# Altium schematic symbol library ic-power-module.SchLib: 10 symbols
Pins are listed as number, name and electrical type; pins without a type are passive.

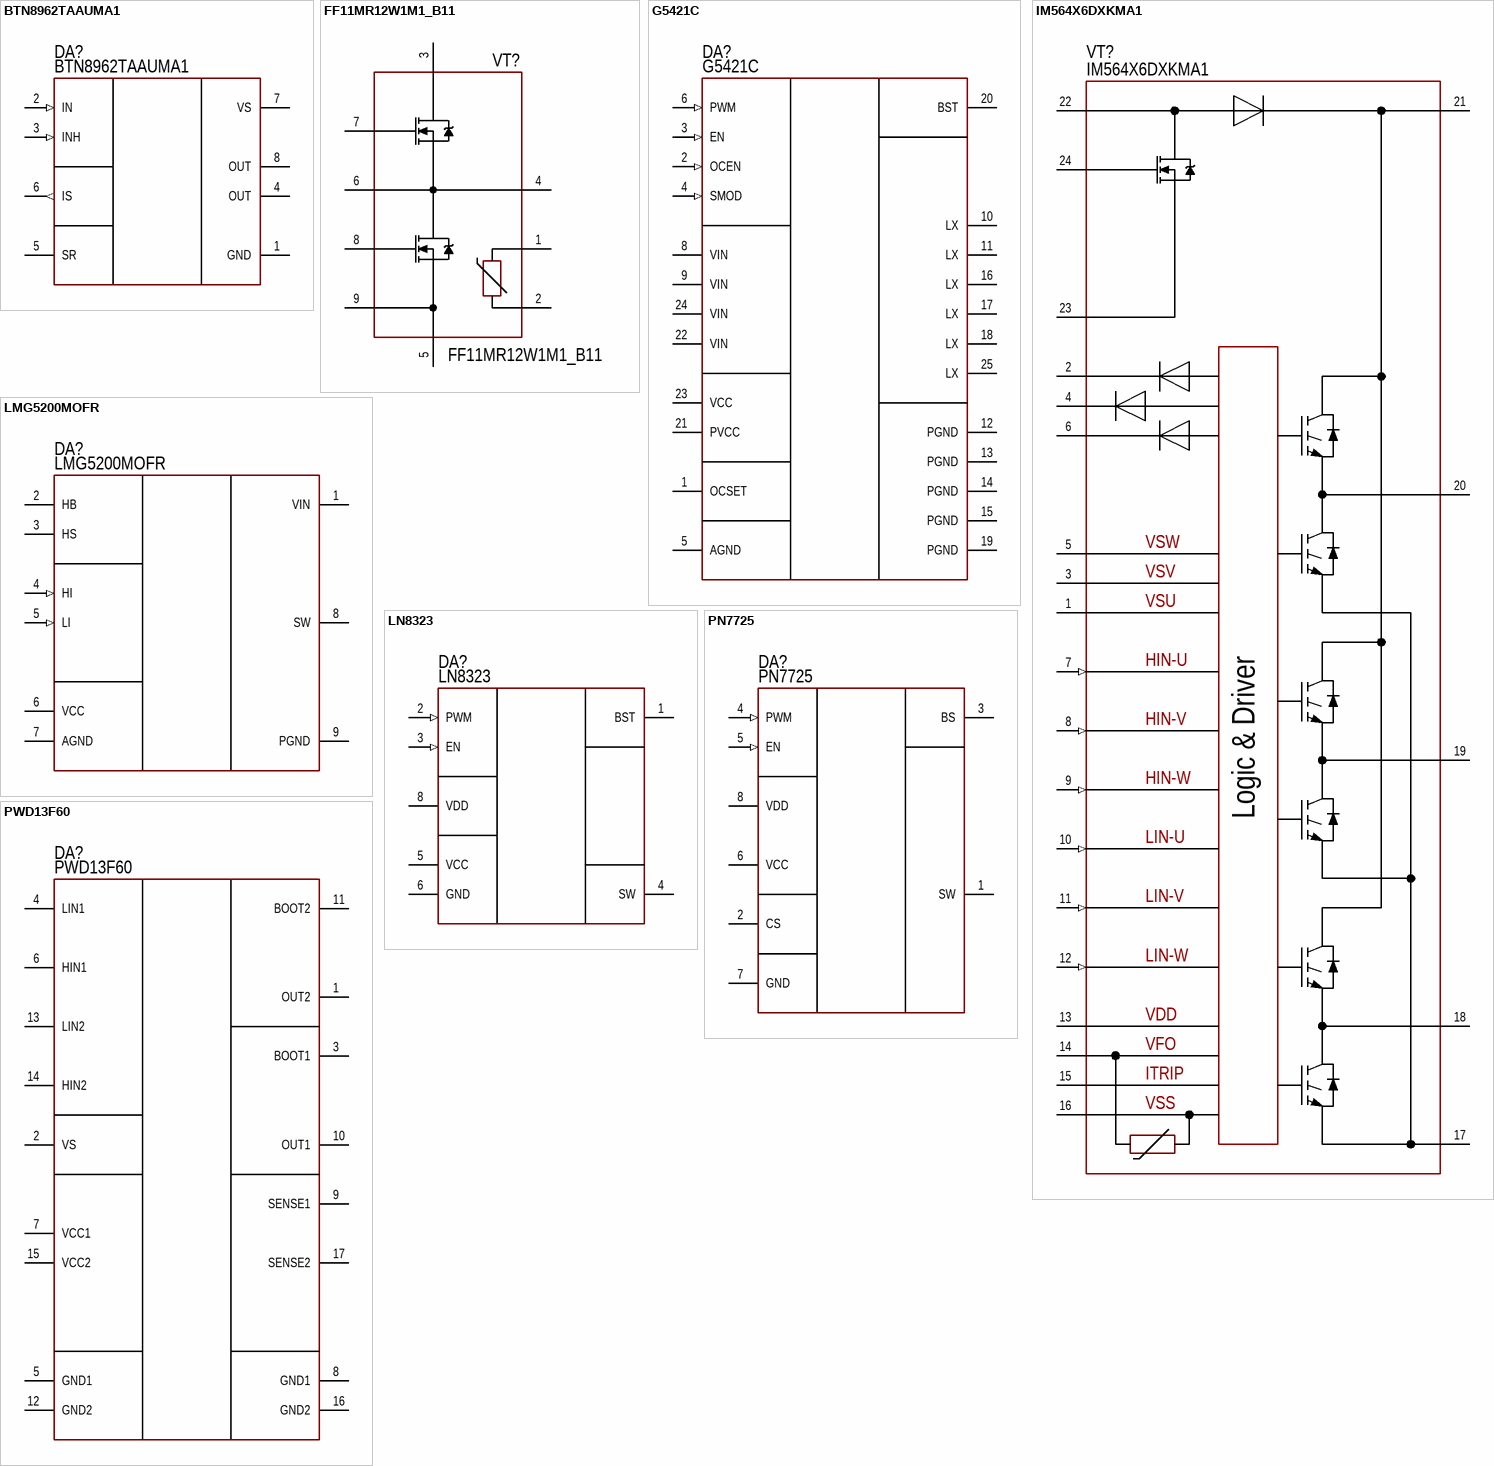
[diagram p0: symbols BTN8962TAAUMA1 to PWD13F60]

## BTN8962TAAUMA1
designator DA?  PartNumber: BTN8962TAAUMA1
Brushed half-bridge; Manufacturer: Infineon; ValueManufacturerPartNumber: Brushed half-bridge, 40V, 7.5/6.7mOhm, 40A, supply 8...18V, -40...+150°C, TO-263-7; VoltageSupply: supply 8...18V; Frequency: 7.5/6.7mOhm; CurrentOutput: 40A; VoltageWork: 40V; HelpURL: https://ru.mouser.com/ProductDetail/Infineon-Technologies/BTN8962TAAUMA1?qs=WkdRfq4wf1PW7zeUayII0w%3D%3D; Package: TO-263-7; ComponentType: Brushed half-bridge; Temperature: -40...+150°C
footprint TO-263-7 (TO263-7 (D2Pak, 7-Pads))
pins: 1 GND, 2 IN (in), 3 INH (in), 4 OUT, 5 SR, 6 IS (out), 7 VS, 8 OUT

## FF11MR12W1M1_B11
designator VT?  PartNumber: FF11MR12W1M1_B11
SiC half-bridge; Manufacturer: Infineon Technologies; ValueManufacturerPartNumber: Dual SiC module, 1200V, 100A, 238nC, 682W, 11 mOhms, Easy B1, -55...+125°C; TypeTransistor: Dual SiC module; VoltageDS: 1200V; CurrentDS: 100A; RDS: 11 mOhms; GateCharge: 238nC; MaxPower: 682W; Package: Easy B1; HelpURL: https://ru.mouser.com/ProductDetail/Infineon-Technologies/FF11MR12W1M1B11BOMA1?qs=sGAEpiMZZMve4%2FbfQkoj%252BMs%252BHhAJ5BiNWWSXLBNhDy8%3D; Temperature: -55...+125°C
footprint MOD: FF11MR12W1M1_B11
pins: 1 G, 1 G, 1, 2 D, 2 D, 2, 3 S, 3 S, 3, 4, 5, 6, 7, 8, 9

## G5421C
designator DA?  PartNumber: G5421C
Mosfet module; Manufacturer: GMT; ValueManufacturerPartNumber: Half-bridge module, 30V, 1MHz, 6A, supply 4.5...5.5V, -40...+125°C, QFN-4x4; VoltageSupply: supply 4.5...5.5V; Frequency: 1MHz; CurrentOutput: 6A; VoltageWork: 30V; HelpURL: https://lcsc.com/product-detail/PMIC-Current-Power-Monitors-Regulators_GMT-Global-Mixed-mode-Tech-G5421CQT1U_C528085.html; Package: QFN-4x4; ComponentType: Half-bridge module; Temperature: -40...+125°C
footprint IC: G5421C
pins: 1 OCSET, 2 OCEN (in), 3 EN (in), 4 SMOD (in), 5 AGND, 6 PWM (in), 8 VIN, 9 VIN, 10 LX, 11 LX, 12 PGND, 13 PGND, 14 PGND, 15 PGND, 16 LX, 17 LX, 18 LX, 19 PGND, 20 BST, 21 PVCC, 22 VIN, 23 VCC, 24 VIN, 25 LX

## IM564X6DXKMA1
designator VT?  PartNumber: IM564X6DXKMA1
PFC+IGBT; Manufacturer: Infineon; ValueManufacturerPartNumber: PFC+IGBT, 600V, 20A, 10...40 kHz, 2400W, 11 mOhms, CIPOS Mini, -55...+125°C; VoltageDS: 600V; CurrentDS: 20A; RDS: 11 mOhms; GateCharge: 10...40 kHz; MaxPower: 2400W; Package: CIPOS Mini; HelpURL: https://ru.mouser.com/ProductDetail/Infineon-Technologies/IM564X6DXKMA1/?qs=vHuUswq2%252BsyssQKyweZuZA%3D%3D; Temperature: -55...+125°C; TypeTransistor: PFC+IGBT
footprint MOD: CIPOS
pins: 1, 2, 3, 4, 5, 6, 7 (in), 8 (in), 9 (in), 10 (in), 11 (in), 12 (in), 13, 14, 15, 16, 17, 18, 19, 20, 21, 22, 23, 24
text: VSW; VSV; VSU; HIN-U; HIN-V; HIN-W; Logic & Driver; LIN-U; LIN-V; LIN-W; VDD; VFO; ITRIP; VSS

## LMG5200MOFR
designator DA?  PartNumber: LMG5200MOFR
Module GaN; Manufacturer: Texas Instruments; ValueManufacturerPartNumber: GaN power module, 80V, 4MHz, 10A, supply 4.75...5.25V, -40...+125°C, 9-QFN; VoltageSupply: supply 4.75...5.25V; Frequency: 4MHz; CurrentOutput: 10A; VoltageWork: 80V; HelpURL: https://www.digikey.com/product-detail/en/texas-instruments/LMG5200MOFR/296-46617-1-ND/7203901; Package: 9-QFN; ComponentType: GaN power module; Temperature: -40...+125°C
footprint IC: LMG5200
pins: 1 VIN, 2 HB, 3 HS, 4 HI (in), 5 LI (in), 6 VCC, 7 AGND, 8 SW, 9 PGND

## LN8323
designator DA?  PartNumber: LN8323
Gate driver; Manufacturer: Chipown; ValueManufacturerPartNumber: Half-bridge module, 2N channel, 100kHz, 6A, supply 4...30V, -40...+125°C, 8-SOIC-PAD; VoltageSupply: supply 4...30V; Frequency: 100kHz; CurrentOutput: 6A; VoltageWork: 2N channel; HelpURL: http://chipown.com/product.asp?id=416; Package: 8-SOIC-PAD; ComponentType: Half-bridge module; Temperature: -40...+125°C
footprint 8-SOIC-PAD (pitch 1.27 mm, power pad)
pins: 1 BST, 2 PWM (in), 3 EN (in), 4 SW, 5 VCC, 6 GND, 8 VDD

## PN7725
designator DA?  PartNumber: PN7725
Gate driver; Manufacturer: Chipown; ValueManufacturerPartNumber: Half-bridge module, 2N channel, 200kHz, 15W, supply 4...20V, -40...+125°C, 8-SOIC-PAD; VoltageSupply: supply 4...20V; Frequency: 200kHz; CurrentOutput: 15W; VoltageWork: 2N channel; HelpURL: http://chipown.com/product.asp?id=416; Package: 8-SOIC-PAD; ComponentType: Half-bridge module; Temperature: -40...+125°C
footprint 8-SOIC-PAD (pitch 1.27 mm, power pad)
pins: 1 SW, 2 CS, 3 BS, 4 PWM (in), 5 EN (in), 6 VCC, 7 GND, 8 VDD

## PWD13F60
designator DA?  PartNumber: PWD13F60
Module MOSFET; Manufacturer: STMicroelectronics; ValueManufacturerPartNumber: MOSFET power module, 600V, 1MHz, 8A, supply 6.5...15V, -40...+125°C, 28-PowerVQFN; VoltageSupply: supply 6.5...15V; Frequency: 1MHz; CurrentOutput: 8A; VoltageWork: 600V; HelpURL: https://www.digikey.com/product-detail/en/stmicroelectronics/PWD13F60/497-18514-ND/8257611; Package: 28-PowerVQFN; ComponentType: MOSFET power module; Temperature: -40...+125°C
footprint IC: PWD13F60
pins: 1 OUT2 (power), 2 VS (power), 3 BOOT1 (power), 4 LIN1 (power), 5 GND1 (power), 6 HIN1 (power), 7 VCC1 (power), 8 GND1 (power), 9 SENSE1 (power), 10 OUT1 (power), 11 BOOT2 (power), 12 GND2 (power), 13 LIN2 (power), 14 HIN2 (power), 15 VCC2 (power), 16 GND2 (power), 17 SENSE2 (power)

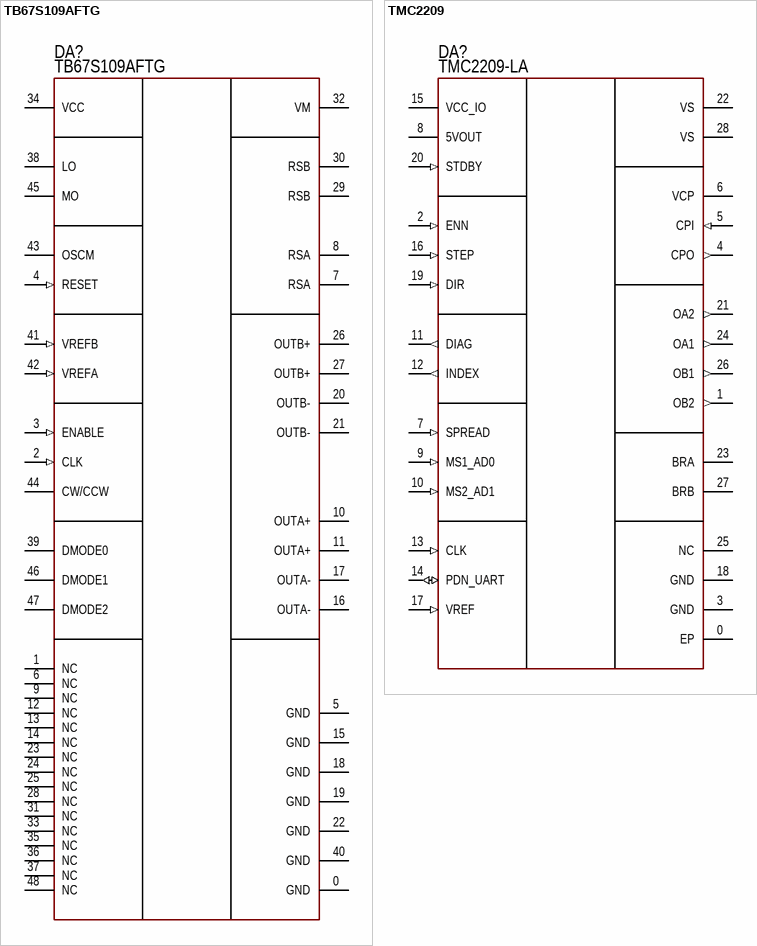
[diagram p1: symbols TB67S109AFTG to TMC2209]

## TB67S109AFTG
designator DA?  PartNumber: TB67S109AFTG
Stepper motor driver; Manufacturer: TOSHIBA; VoltageSupply: supply -0.5..5.5V; CurrentOutput: 3A; Voltage Range: 10… 48V DC; HelpURL: https://toshiba.semicon-storage.com/ap-en/semiconductor/product/motor-driver-ics/stepping-motor-driver-ics/detail.TB67S109AFTG.html; Package: 48-QFN; ComponentType: Stepper motor driver; ValueManufacturerPartNumber: =ComponentType+', '+VoltageWork+', '+Frequency+', '+CurrentOutput+', '+CMTI+', '+VoltageSupply+', '+Temperature+', '+Package; Temperature: -50...+150°C
footprint 48-QFN (7x7) (7x7 mm, pitch 0.5 mm, power pad)
pins: 0 GND, 1 NC, 2 CLK (in), 3 ENABLE (in), 4 RESET (in), 5 GND, 6 NC, 7 RSA, 8 RSA, 9 NC, 10 OUTA+, 11 OUTA+, 12 NC, 13 NC, 14 NC, 15 GND, 16 OUTA-, 17 OUTA-, 18 GND, 19 GND, 20 OUTB-, 21 OUTB-, 22 GND, 23 NC, 24 NC, 25 NC, 26 OUTB+, 27 OUTB+, 28 NC, 29 RSB, 30 RSB, 31 NC, 32 VM (power), 33 NC, 34 VCC (power), 35 NC, 36 NC, 37 NC, 38 LO, 39 DMODE0, 40 GND, 41 VREFB (in), 42 VREFA (in), 43 OSCM, 44 CW/CCW, 45 MO, 46 DMODE1, 47 DMODE2, 48 NC

## TMC2209
designator DA?  PartNumber: TMC2209-LA
Stepper motor driver; Manufacturer: TRINAMIC; VoltageSupply: supply -0.5..5.5V; CurrentOutput: 2.8A; Voltage Range: 4.75… 29V DC; HelpURL: https://www.trinamic.com/products/integrated-circuits/details/tmc2209-la/; Package: 28-QFN; ComponentType: Stepper motor driver; ValueManufacturerPartNumber: =ComponentType+', '+VoltageWork+', '+Frequency+', '+CurrentOutput+', '+CMTI+', '+VoltageSupply+', '+Temperature+', '+Package; Temperature: -50...+150°C
footprint 28-QFN (5x5) (5x5 mm, pitch 0.5 mm, power pad)
pins: 0 EP (power), 1 OB2 (out), 2 ENN (in), 3 GND, 4 CPO (out), 5 CPI (in), 6 VCP, 7 SPREAD (in), 8 5VOUT (power), 9 MS1_AD0 (in), 10 MS2_AD1 (in), 11 DIAG (out), 12 INDEX (out), 13 CLK (in), 14 PDN_UART (io), 15 VCC_IO (power), 16 STEP (in), 17 VREF (in), 18 GND, 19 DIR (in), 20 STDBY (in), 21 OA2 (out), 22 VS (power), 23 BRA, 24 OA1 (out), 25 NC, 26 OB1 (out), 27 BRB, 28 VS (power)